# Altium footprint library PcbLib1.PcbLib: 2 footprints
Each footprint in its own frame and in the unit in brackets; x right, y up, seen from the top. Pads: shape width x height; smd on the part's side, far side on the other; paste and mask are expansions set on the pad; w line width, h text height; cw(c..) or ccw(c..) is an arc to the next point about the centre after c.
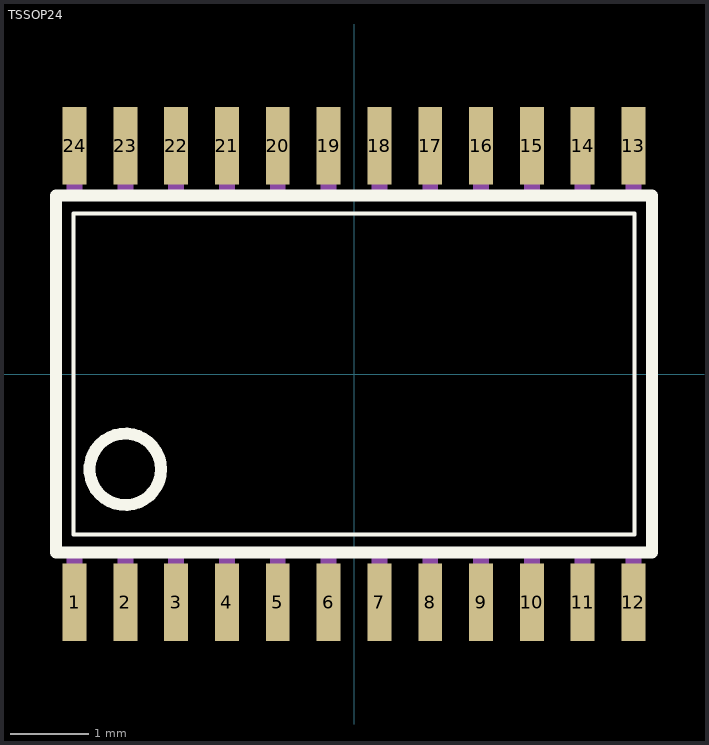
[diagram p0: the footprints below, top view; thin cyan lines are the x and y axes]

## PCBComponent_1 [mil]

## TSSOP24 [mil]
pads (24):
  rect 12x39 smd: 1(-140.75,-114.87) 2(-115.16,-114.87) 3(-89.57,-114.87) 4(-63.98,-114.87) 5(-38.39,-114.87) 6(-12.8,-114.87) 7(12.8,-114.87) 8(38.39,-114.87) 9(63.98,-114.87) 10(89.57,-114.87) 11(115.16,-114.87) 12(140.75,-114.87) 13(140.75,114.87) 14(115.16,114.87) 15(89.57,114.87) 16(63.98,114.87) 17(38.39,114.87) 18(12.8,114.87) 19(-12.8,114.87) 20(-38.39,114.87) 21(-63.98,114.87) 22(-89.57,114.87) 23(-115.16,114.87) 24(-140.75,114.87)
Top Overlay:
  circle w6: c-115.18,-48 r18
  lines w2: -141.18,-80.87 -141.18,80.87 141.18,80.87 141.18,-80.87 -141.18,-80.87
  lines w6: -150.18,-89.87 -150.18,89.87 150.18,89.87 150.18,-89.87 -150.18,-89.87
Mechanical 16:
  rectangle: -144.75,89.87 -136.75,122.87
  rectangle: -119.16,89.87 -111.16,122.87
  rectangle: -93.57,89.87 -85.57,122.87
  rectangle: -67.98,89.87 -59.98,122.87
  rectangle: -42.39,89.87 -34.39,122.87
  rectangle: -16.8,89.87 -8.8,122.87
  rectangle: 8.8,89.87 16.8,122.87
  rectangle: 34.39,89.87 42.39,122.87
  rectangle: 59.98,89.87 67.98,122.87
  rectangle: 85.57,89.87 93.57,122.87
  rectangle: 111.16,89.87 119.16,122.87
  rectangle: 136.75,89.87 144.75,122.87
  rectangle: 136.75,-122.87 144.75,-89.87
  rectangle: 111.16,-122.87 119.16,-89.87
  rectangle: 85.57,-122.87 93.57,-89.87
  rectangle: 59.98,-122.87 67.98,-89.87
  rectangle: 34.39,-122.87 42.39,-89.87
  rectangle: 8.8,-122.87 16.8,-89.87
  rectangle: -16.8,-122.87 -8.8,-89.87
  rectangle: -42.39,-122.87 -34.39,-89.87
  rectangle: -67.98,-122.87 -59.98,-89.87
  rectangle: -93.57,-122.87 -85.57,-89.87
  rectangle: -119.16,-122.87 -111.16,-89.87
  rectangle: -144.75,-122.87 -136.75,-89.87